# Altium integrated library 1-1825027-1.IntLib: 1 symbol
Pins are listed as number, name and electrical type; pins without a type are passive.

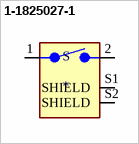
[diagram p0: symbol 1-1825027-1]

## 1-1825027-1
designator S
Switch Push Button OFF _ON_ SPST Round Button 0.05A 24VDC Momentary Contact PC Pins Thru-Hole; MF: TE Connectivity; MP: 1-1825027-1; Package: None; EU_RoHS_Compliance: Compliant; Price: None; TE_purchase_URL: https://www.te.com/usa-en/product-1-1825027-1.html?te_bu=Cor&te_type=disp&te_campaign=seda_glo_cor-seda-global-disp-prtnr-fy19-seda-model-bom-cta_sma-317_1&elqCampaignId=32493; SnapEDA_Link: https://www.snapeda.com/parts/1-1825027-1/TE%20Connectivity%20ALCOSWITCH%20Switches/view-part/394875/?ref=snap; Availability: Unavailable; Value: *
footprint SW_1-1825027-1
pins: 1, 2, S1 SHIELD (power), S2 SHIELD (power)